# Altium integrated library Analog Devices RF IF Modulators and Demodulators.IntLib: 86 symbols (part 3 of 8)
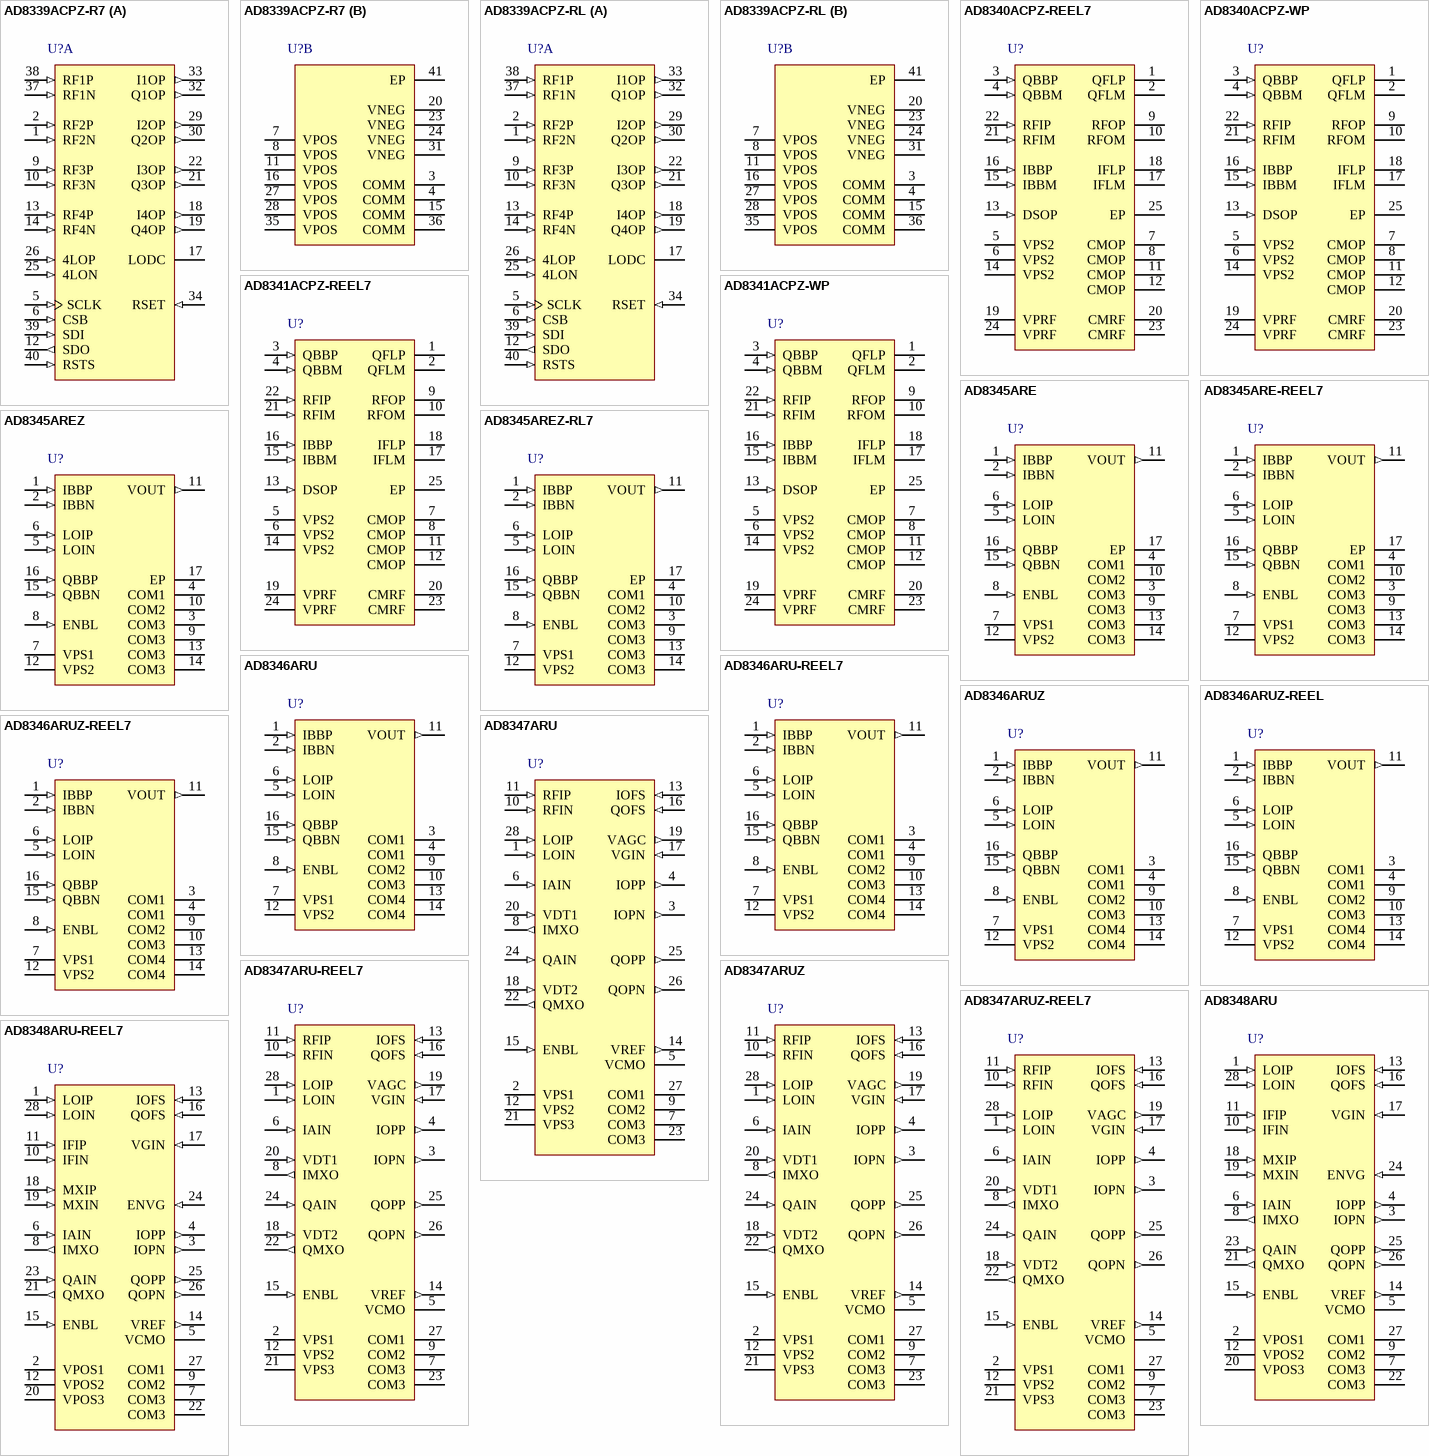
[diagram p7: symbols AD8339ACPZ-R7 to AD8348ARU-REEL7]

## AD8347ARU
designator U?
0.8 GHz to 2.7 GHz Direct Conversion Quadrature Demodulator, RU-28, 50 Tube; Min RF Frequency (MHz): 800MHz; Max RF Frequency (MHz): 2.7GHz; IQ Freq (MHz): 65MHz; Phase Error (deg): 1Deg; Amplitude Error (dB): 300mdB; VGA Range (dB): 69.5dB; IIP3 (+dBm): 11.5dBm; Output P1dB (dBm): 2; DatasheetVersion: Rev. A; PackageVersion: 2005; PackageReference: RU-28; PackageDescription: 28-Lead Thin Shrink Small Outline Package [TSSOP]; Code_JEDEC: MO-153-AE; ComponentLink1Description: Manufacturer URL; ComponentLink1URL: www.analog.com; ComponentLink2Description: Datasheet; ComponentLink2URL: http://www.analog.com/static/imported-files/data_sheets/AD8347.pdf; ComponentLink3Description: Package Specification; ComponentLink3URL: http://www.analog.com/static/imported-files/packages/249854663RU_28.pdf
footprint ADI-RU-28_N (TSOP, 28-Leads, Body 9.7x4.4mm, Pitch 0.65mm, IPC Medium Density)
footprint ADI-RU-28_L (TSOP, 28-Leads, Body 9.7x4.4mm, Pitch 0.65mm, IPC High Density)
footprint ADI-RU-28_M (TSOP, 28-Leads, Body 9.7x4.4mm, Pitch 0.65mm, IPC Low Density)
pins: 1 LOIN (in) "LO Input. For optimum performance, these inputs are differentially driven. Typical input drive level is equal to -8 dBm.[see datasheet]", 2 VPS1 (power) "Positive Supply for LO Section. Decouple VPS1 with 0.1 uF and 100 pF capacitors.", 3 IOPN (out) "I-Channel Differential Baseband Output. Typical output swing is equal to 760 mV p-p differential in AGC mode. The common-mode level on these pins is programmed by the voltage on VCMO.", 4 IOPP (out) "I-Channel Differential Baseband Output. Typical output swing is equal to 760 mV p-p differential in AGC mode. The common-mode level on these pins is programmed by the voltage on VCMO.", 5 VCMO "Baseband Amplifier Common-Mode Voltage. The voltage applied to this pin sets the output common-mode level of the baseband amplifiers.[see datasheet]", 6 IAIN (in) "I-Channel Baseband Amplifier Input. This pin, which has a high input impedance, should be biased to VREF (approximately 1 V).[see datasheet]", 7 COM3 (power) "Ground for Biasing and Baseband Sections.", 8 IMXO (out) "I-Channel and Q-Channel Baseband Mixer/VGA Outputs. Low impedance outputs with bias levels equal to VREF.[see datasheet]", 9 COM2 (power) "RF Section Ground.", 10 RFIN (in) "RF Input. RFIN must be ac-coupled to ground. The RF input signal should be ac-coupled into RFIP.[see datasheet]", 11 RFIP (in) "RF Input. RFIN must be ac-coupled to ground. The RF input signal should be ac-coupled into RFIP.[see datasheet]", 12 VPS2 (power) "Positive Supply for RF Section. Decouple VPS2 with 0.1 uF and 100 pF capacitors.", 13 IOFS (in) "I-Channel Offset Nulling Inputs.", 14 VREF (out) "Reference Voltage Output. This output voltage (1 V) is the main bias level for the device and can be used to externally bias the inputs and outputs of the baseband amplifiers. [see datasheet]", 15 ENBL (in) "Chip Enable Input. Active high.", 16 QOFS (in) "Q-Channel Offset Nulling Inputs.", 17 VGIN (in) "Gain Control Input. The voltage on this pin controls the gain on the RF and baseband VGAs. The gain control is applied in parallel to all VGAs.[see datasheet]", 18 VDT2 (in) "Detector Inputs. These pins are the inputs to the on-board detector. VDT2 and VDT1, which have high input impedances, are normally connected to IMXO and QMXO, respectively.", 19 VAGC (out) "AGC Output. This pin provides the output voltage from the on-board detector. In AGC mode, connect this pin directly to VGIN.", 20 VDT1 (in) "Detector Inputs. These pins are the inputs to the on-board detector. VDT2 and VDT1, which have high input impedances, are normally connected to IMXO and QMXO, respectively.", 21 VPS3 (power) "Positive Supply for Biasing and Baseband Sections. Decouple VPS3 with 0.1 uF and 100 pF capacitors.", 22 QMXO (out) "I-Channel and Q-Channel Baseband Mixer/VGA Outputs. Low impedance outputs with bias levels equal to VREF.[see datasheet]", 23 COM3 (power) "Ground for Biasing and Baseband Sections.", 24 QAIN (in) "Q-Channel Baseband Amplifier Input. Bias this high input impedance pin to VREF (approximately 1 V). If QAIN is directly connected to QMXO, biasing is provided by QMXO.[see datasheet]", 25 QOPP (out) "Q-Channel Differential Baseband Output. Typical output swing is equal to 760 mV p-p differential. The common-mode level on these pins is programmed by the voltage on VCMO.", 26 QOPN (out) "Q-Channel Differential Baseband Output. Typical output swing is equal to 760 mV p-p differential. The common-mode level on these pins is programmed by the voltage on VCMO.", 27 COM1 (power) "LO Section Ground.", 28 LOIP (in) "LO Input. For optimum performance, these inputs are differentially driven. Typical input drive level is equal to -8 dBm.[see datasheet]"

## AD8347ARU-REEL7
designator U?
0.8 GHz to 2.7 GHz Direct Conversion Quadrature Demodulator, RU-28, 1000 Reel; Min RF Frequency (MHz): 800MHz; Max RF Frequency (MHz): 2.7GHz; IQ Freq (MHz): 65MHz; Phase Error (deg): 1Deg; Amplitude Error (dB): 300mdB; VGA Range (dB): 69.5dB; IIP3 (+dBm): 11.5dBm; Output P1dB (dBm): 2; DatasheetVersion: Rev. A; PackageVersion: 2005; PackageReference: RU-28; PackageDescription: 28-Lead Thin Shrink Small Outline Package [TSSOP]; Code_JEDEC: MO-153-AE; ComponentLink1Description: Manufacturer URL; ComponentLink1URL: www.analog.com; ComponentLink2Description: Datasheet; ComponentLink2URL: http://www.analog.com/static/imported-files/data_sheets/AD8347.pdf; ComponentLink3Description: Package Specification; ComponentLink3URL: http://www.analog.com/static/imported-files/packages/249854663RU_28.pdf
footprint ADI-RU-28_N (TSOP, 28-Leads, Body 9.7x4.4mm, Pitch 0.65mm, IPC Medium Density)
footprint ADI-RU-28_L (TSOP, 28-Leads, Body 9.7x4.4mm, Pitch 0.65mm, IPC High Density)
footprint ADI-RU-28_M (TSOP, 28-Leads, Body 9.7x4.4mm, Pitch 0.65mm, IPC Low Density)
pins: 1 LOIN (in) "LO Input. For optimum performance, these inputs are differentially driven. Typical input drive level is equal to -8 dBm.[see datasheet]", 2 VPS1 (power) "Positive Supply for LO Section. Decouple VPS1 with 0.1 uF and 100 pF capacitors.", 3 IOPN (out) "I-Channel Differential Baseband Output. Typical output swing is equal to 760 mV p-p differential in AGC mode. The common-mode level on these pins is programmed by the voltage on VCMO.", 4 IOPP (out) "I-Channel Differential Baseband Output. Typical output swing is equal to 760 mV p-p differential in AGC mode. The common-mode level on these pins is programmed by the voltage on VCMO.", 5 VCMO "Baseband Amplifier Common-Mode Voltage. The voltage applied to this pin sets the output common-mode level of the baseband amplifiers.[see datasheet]", 6 IAIN (in) "I-Channel Baseband Amplifier Input. This pin, which has a high input impedance, should be biased to VREF (approximately 1 V).[see datasheet]", 7 COM3 (power) "Ground for Biasing and Baseband Sections.", 8 IMXO (out) "I-Channel and Q-Channel Baseband Mixer/VGA Outputs. Low impedance outputs with bias levels equal to VREF.[see datasheet]", 9 COM2 (power) "RF Section Ground.", 10 RFIN (in) "RF Input. RFIN must be ac-coupled to ground. The RF input signal should be ac-coupled into RFIP.[see datasheet]", 11 RFIP (in) "RF Input. RFIN must be ac-coupled to ground. The RF input signal should be ac-coupled into RFIP.[see datasheet]", 12 VPS2 (power) "Positive Supply for RF Section. Decouple VPS2 with 0.1 uF and 100 pF capacitors.", 13 IOFS (in) "I-Channel Offset Nulling Inputs.", 14 VREF (out) "Reference Voltage Output. This output voltage (1 V) is the main bias level for the device and can be used to externally bias the inputs and outputs of the baseband amplifiers. [see datasheet]", 15 ENBL (in) "Chip Enable Input. Active high.", 16 QOFS (in) "Q-Channel Offset Nulling Inputs.", 17 VGIN (in) "Gain Control Input. The voltage on this pin controls the gain on the RF and baseband VGAs. The gain control is applied in parallel to all VGAs.[see datasheet]", 18 VDT2 (in) "Detector Inputs. These pins are the inputs to the on-board detector. VDT2 and VDT1, which have high input impedances, are normally connected to IMXO and QMXO, respectively.", 19 VAGC (out) "AGC Output. This pin provides the output voltage from the on-board detector. In AGC mode, connect this pin directly to VGIN.", 20 VDT1 (in) "Detector Inputs. These pins are the inputs to the on-board detector. VDT2 and VDT1, which have high input impedances, are normally connected to IMXO and QMXO, respectively.", 21 VPS3 (power) "Positive Supply for Biasing and Baseband Sections. Decouple VPS3 with 0.1 uF and 100 pF capacitors.", 22 QMXO (out) "I-Channel and Q-Channel Baseband Mixer/VGA Outputs. Low impedance outputs with bias levels equal to VREF.[see datasheet]", 23 COM3 (power) "Ground for Biasing and Baseband Sections.", 24 QAIN (in) "Q-Channel Baseband Amplifier Input. Bias this high input impedance pin to VREF (approximately 1 V). If QAIN is directly connected to QMXO, biasing is provided by QMXO.[see datasheet]", 25 QOPP (out) "Q-Channel Differential Baseband Output. Typical output swing is equal to 760 mV p-p differential. The common-mode level on these pins is programmed by the voltage on VCMO.", 26 QOPN (out) "Q-Channel Differential Baseband Output. Typical output swing is equal to 760 mV p-p differential. The common-mode level on these pins is programmed by the voltage on VCMO.", 27 COM1 (power) "LO Section Ground.", 28 LOIP (in) "LO Input. For optimum performance, these inputs are differentially driven. Typical input drive level is equal to -8 dBm.[see datasheet]"

## AD8347ARUZ
designator U?
0.8 GHz to 2.7 GHz Direct Conversion Quadrature Demodulator, RU-28, Pb-Free, 50 Tube; Min RF Frequency (MHz): 800MHz; Max RF Frequency (MHz): 2.7GHz; IQ Freq (MHz): 65MHz; Phase Error (deg): 1Deg; Amplitude Error (dB): 300mdB; VGA Range (dB): 69.5dB; IIP3 (+dBm): 11.5dBm; Output P1dB (dBm): 2; DatasheetVersion: Rev. A; PackageVersion: 2005; PackageReference: RU-28; PackageDescription: 28-Lead Thin Shrink Small Outline Package [TSSOP]; Code_JEDEC: MO-153-AE; ComponentLink1Description: Manufacturer URL; ComponentLink1URL: www.analog.com; ComponentLink2Description: Datasheet; ComponentLink2URL: http://www.analog.com/static/imported-files/data_sheets/AD8347.pdf; ComponentLink3Description: Package Specification; ComponentLink3URL: http://www.analog.com/static/imported-files/packages/249854663RU_28.pdf
footprint ADI-RU-28_N (TSOP, 28-Leads, Body 9.7x4.4mm, Pitch 0.65mm, IPC Medium Density)
footprint ADI-RU-28_L (TSOP, 28-Leads, Body 9.7x4.4mm, Pitch 0.65mm, IPC High Density)
footprint ADI-RU-28_M (TSOP, 28-Leads, Body 9.7x4.4mm, Pitch 0.65mm, IPC Low Density)
pins: 1 LOIN (in) "LO Input. For optimum performance, these inputs are differentially driven. Typical input drive level is equal to -8 dBm.[see datasheet]", 2 VPS1 (power) "Positive Supply for LO Section. Decouple VPS1 with 0.1 uF and 100 pF capacitors.", 3 IOPN (out) "I-Channel Differential Baseband Output. Typical output swing is equal to 760 mV p-p differential in AGC mode. The common-mode level on these pins is programmed by the voltage on VCMO.", 4 IOPP (out) "I-Channel Differential Baseband Output. Typical output swing is equal to 760 mV p-p differential in AGC mode. The common-mode level on these pins is programmed by the voltage on VCMO.", 5 VCMO "Baseband Amplifier Common-Mode Voltage. The voltage applied to this pin sets the output common-mode level of the baseband amplifiers.[see datasheet]", 6 IAIN (in) "I-Channel Baseband Amplifier Input. This pin, which has a high input impedance, should be biased to VREF (approximately 1 V).[see datasheet]", 7 COM3 (power) "Ground for Biasing and Baseband Sections.", 8 IMXO (out) "I-Channel and Q-Channel Baseband Mixer/VGA Outputs. Low impedance outputs with bias levels equal to VREF.[see datasheet]", 9 COM2 (power) "RF Section Ground.", 10 RFIN (in) "RF Input. RFIN must be ac-coupled to ground. The RF input signal should be ac-coupled into RFIP.[see datasheet]", 11 RFIP (in) "RF Input. RFIN must be ac-coupled to ground. The RF input signal should be ac-coupled into RFIP.[see datasheet]", 12 VPS2 (power) "Positive Supply for RF Section. Decouple VPS2 with 0.1 uF and 100 pF capacitors.", 13 IOFS (in) "I-Channel Offset Nulling Inputs.", 14 VREF (out) "Reference Voltage Output. This output voltage (1 V) is the main bias level for the device and can be used to externally bias the inputs and outputs of the baseband amplifiers. [see datasheet]", 15 ENBL (in) "Chip Enable Input. Active high.", 16 QOFS (in) "Q-Channel Offset Nulling Inputs.", 17 VGIN (in) "Gain Control Input. The voltage on this pin controls the gain on the RF and baseband VGAs. The gain control is applied in parallel to all VGAs.[see datasheet]", 18 VDT2 (in) "Detector Inputs. These pins are the inputs to the on-board detector. VDT2 and VDT1, which have high input impedances, are normally connected to IMXO and QMXO, respectively.", 19 VAGC (out) "AGC Output. This pin provides the output voltage from the on-board detector. In AGC mode, connect this pin directly to VGIN.", 20 VDT1 (in) "Detector Inputs. These pins are the inputs to the on-board detector. VDT2 and VDT1, which have high input impedances, are normally connected to IMXO and QMXO, respectively.", 21 VPS3 (power) "Positive Supply for Biasing and Baseband Sections. Decouple VPS3 with 0.1 uF and 100 pF capacitors.", 22 QMXO (out) "I-Channel and Q-Channel Baseband Mixer/VGA Outputs. Low impedance outputs with bias levels equal to VREF.[see datasheet]", 23 COM3 (power) "Ground for Biasing and Baseband Sections.", 24 QAIN (in) "Q-Channel Baseband Amplifier Input. Bias this high input impedance pin to VREF (approximately 1 V). If QAIN is directly connected to QMXO, biasing is provided by QMXO.[see datasheet]", 25 QOPP (out) "Q-Channel Differential Baseband Output. Typical output swing is equal to 760 mV p-p differential. The common-mode level on these pins is programmed by the voltage on VCMO.", 26 QOPN (out) "Q-Channel Differential Baseband Output. Typical output swing is equal to 760 mV p-p differential. The common-mode level on these pins is programmed by the voltage on VCMO.", 27 COM1 (power) "LO Section Ground.", 28 LOIP (in) "LO Input. For optimum performance, these inputs are differentially driven. Typical input drive level is equal to -8 dBm.[see datasheet]"

## AD8347ARUZ-REEL7
designator U?
0.8 GHz to 2.7 GHz Direct Conversion Quadrature Demodulator, RU-28, Pb-Free, 1000 Reel; Min RF Frequency (MHz): 800MHz; Max RF Frequency (MHz): 2.7GHz; IQ Freq (MHz): 65MHz; Phase Error (deg): 1Deg; Amplitude Error (dB): 300mdB; VGA Range (dB): 69.5dB; IIP3 (+dBm): 11.5dBm; Output P1dB (dBm): 2; DatasheetVersion: Rev. A; PackageVersion: 2005; PackageReference: RU-28; PackageDescription: 28-Lead Thin Shrink Small Outline Package [TSSOP]; Code_JEDEC: MO-153-AE; ComponentLink1Description: Manufacturer URL; ComponentLink1URL: www.analog.com; ComponentLink2Description: Datasheet; ComponentLink2URL: http://www.analog.com/static/imported-files/data_sheets/AD8347.pdf; ComponentLink3Description: Package Specification; ComponentLink3URL: http://www.analog.com/static/imported-files/packages/249854663RU_28.pdf
footprint ADI-RU-28_N (TSOP, 28-Leads, Body 9.7x4.4mm, Pitch 0.65mm, IPC Medium Density)
footprint ADI-RU-28_L (TSOP, 28-Leads, Body 9.7x4.4mm, Pitch 0.65mm, IPC High Density)
footprint ADI-RU-28_M (TSOP, 28-Leads, Body 9.7x4.4mm, Pitch 0.65mm, IPC Low Density)
pins: 1 LOIN (in) "LO Input. For optimum performance, these inputs are differentially driven. Typical input drive level is equal to -8 dBm.[see datasheet]", 2 VPS1 (power) "Positive Supply for LO Section. Decouple VPS1 with 0.1 uF and 100 pF capacitors.", 3 IOPN (out) "I-Channel Differential Baseband Output. Typical output swing is equal to 760 mV p-p differential in AGC mode. The common-mode level on these pins is programmed by the voltage on VCMO.", 4 IOPP (out) "I-Channel Differential Baseband Output. Typical output swing is equal to 760 mV p-p differential in AGC mode. The common-mode level on these pins is programmed by the voltage on VCMO.", 5 VCMO "Baseband Amplifier Common-Mode Voltage. The voltage applied to this pin sets the output common-mode level of the baseband amplifiers.[see datasheet]", 6 IAIN (in) "I-Channel Baseband Amplifier Input. This pin, which has a high input impedance, should be biased to VREF (approximately 1 V).[see datasheet]", 7 COM3 (power) "Ground for Biasing and Baseband Sections.", 8 IMXO (out) "I-Channel and Q-Channel Baseband Mixer/VGA Outputs. Low impedance outputs with bias levels equal to VREF.[see datasheet]", 9 COM2 (power) "RF Section Ground.", 10 RFIN (in) "RF Input. RFIN must be ac-coupled to ground. The RF input signal should be ac-coupled into RFIP.[see datasheet]", 11 RFIP (in) "RF Input. RFIN must be ac-coupled to ground. The RF input signal should be ac-coupled into RFIP.[see datasheet]", 12 VPS2 (power) "Positive Supply for RF Section. Decouple VPS2 with 0.1 uF and 100 pF capacitors.", 13 IOFS (in) "I-Channel Offset Nulling Inputs.", 14 VREF (out) "Reference Voltage Output. This output voltage (1 V) is the main bias level for the device and can be used to externally bias the inputs and outputs of the baseband amplifiers. [see datasheet]", 15 ENBL (in) "Chip Enable Input. Active high.", 16 QOFS (in) "Q-Channel Offset Nulling Inputs.", 17 VGIN (in) "Gain Control Input. The voltage on this pin controls the gain on the RF and baseband VGAs. The gain control is applied in parallel to all VGAs.[see datasheet]", 18 VDT2 (in) "Detector Inputs. These pins are the inputs to the on-board detector. VDT2 and VDT1, which have high input impedances, are normally connected to IMXO and QMXO, respectively.", 19 VAGC (out) "AGC Output. This pin provides the output voltage from the on-board detector. In AGC mode, connect this pin directly to VGIN.", 20 VDT1 (in) "Detector Inputs. These pins are the inputs to the on-board detector. VDT2 and VDT1, which have high input impedances, are normally connected to IMXO and QMXO, respectively.", 21 VPS3 (power) "Positive Supply for Biasing and Baseband Sections. Decouple VPS3 with 0.1 uF and 100 pF capacitors.", 22 QMXO (out) "I-Channel and Q-Channel Baseband Mixer/VGA Outputs. Low impedance outputs with bias levels equal to VREF.[see datasheet]", 23 COM3 (power) "Ground for Biasing and Baseband Sections.", 24 QAIN (in) "Q-Channel Baseband Amplifier Input. Bias this high input impedance pin to VREF (approximately 1 V). If QAIN is directly connected to QMXO, biasing is provided by QMXO.[see datasheet]", 25 QOPP (out) "Q-Channel Differential Baseband Output. Typical output swing is equal to 760 mV p-p differential. The common-mode level on these pins is programmed by the voltage on VCMO.", 26 QOPN (out) "Q-Channel Differential Baseband Output. Typical output swing is equal to 760 mV p-p differential. The common-mode level on these pins is programmed by the voltage on VCMO.", 27 COM1 (power) "LO Section Ground.", 28 LOIP (in) "LO Input. For optimum performance, these inputs are differentially driven. Typical input drive level is equal to -8 dBm.[see datasheet]"

## AD8348ARU
designator U?
50 MHz to 1000 MHz Quadrature Demodulator, RU-28, 50 Tube; Min RF Frequency (MHz): 50MHz; Max RF Frequency (MHz): 1GHz; IQ Freq (MHz): 75MHz; Phase Error (deg): 0.5Deg; Amplitude Error (dB): 250mdB; VGA Range (dB): 45dB; IIP3 (+dBm): 28dBm; Output P1dB (dBm): 13; DatasheetVersion: Rev. A; PackageVersion: 2005; PackageReference: RU-28; PackageDescription: 28-Lead Thin Shrink Small Outline Package [TSSOP]; Code_JEDEC: MO-153-AE; ComponentLink1Description: Manufacturer URL; ComponentLink1URL: www.analog.com; ComponentLink2Description: Datasheet; ComponentLink2URL: http://www.analog.com/static/imported-files/data_sheets/AD8348.pdf; ComponentLink3Description: Package Specification; ComponentLink3URL: http://www.analog.com/static/imported-files/packages/249854663RU_28.pdf
footprint ADI-RU-28_N (TSOP, 28-Leads, Body 9.7x4.4mm, Pitch 0.65mm, IPC Medium Density)
footprint ADI-RU-28_L (TSOP, 28-Leads, Body 9.7x4.4mm, Pitch 0.65mm, IPC High Density)
footprint ADI-RU-28_M (TSOP, 28-Leads, Body 9.7x4.4mm, Pitch 0.65mm, IPC Low Density)
pins: 1 LOIP (in) "LO Inputs. For optimum performance, these inputs should be ac-coupled and driven differentially. Differential drive from single-ended sources can be achieved via a balun. [see datasheet]", 2 VPOS1 (power) "Positive Supply for LO, IF, and Biasing and Baseband Sections, Respectively. These pins should be decoupled with 0.1 uF and 100 pF capacitors", 3 IOPN (out) "I- and Q-Channel Differential Baseband Outputs. Typical output swing is equal to 2 V p-p differential. The dc common-mode voltage level on these pins is set by the voltage on VCMO", 4 IOPP (out) "I- and Q-Channel Differential Baseband Outputs. Typical output swing is equal to 2 V p-p differential. The dc common-mode voltage level on these pins is set by the voltage on VCMO", 5 VCMO "Baseband DC Common-Mode Voltage. The voltage applied to this pin sets the dc common-mode levels for all the baseband outputs and inputs (IMXO, QMXO, IOPP, IOPN, QOPP, QOPN, IAIN, and QAIN). [see datasheet]", 6 IAIN (in) "I- and Q-Channel Baseband Amplifier Inputs. The single-ended signals on these pins are referenced to VCMO and must have a dc bias equal to the dc voltage on the VCMO pin. [see datasheet]", 7 COM3 (power) "Ground for Biasing and Baseband Sections", 8 IMXO (out) "I- and Q-Channel Mixer Baseband Outputs. These are low impedance (40 O) outputs whose bias levels are set by the voltage applied to the VCMO pin. [see datasheet]", 9 COM2 (power) "IF Section Ground", 10 IFIN (in) "IF Inputs. IFIN should be ac-coupled to ground. The single-ended IF input signal should be ac-coupled into IFIP. The nominal differential input impedance of these pins is 200 O. [see datasheet]", 11 IFIP (in) "IF Inputs. IFIN should be ac-coupled to ground. The single-ended IF input signal should be ac-coupled into IFIP. The nominal differential input impedance of these pins is 200 O. [see datasheet]", 12 VPOS2 (power) "Positive Supply for LO, IF, and Biasing and Baseband Sections, Respectively. These pins should be decoupled with 0.1 uF and 100 pF capacitors", 13 IOFS (in) "I- and Q-Channel Offset Nulling Inputs. DC offsets on the I-channel mixer output (IMXO) can be nulled by connecting a 0.1 uF capacitor from IOFS to ground. [see datasheet]", 14 VREF (out) "Reference Voltage Output. This output voltage (1 V) is the main bias level for the device and can be used to externally bias the inputs and outputs of the baseband amplifiers. [see datasheet]", 15 ENBL (in) "Chip Enable Input. Active high. Threshold is equal to VS/2", 16 QOFS (in) "I- and Q-Channel Offset Nulling Inputs. DC offsets on the I-channel mixer output (IMXO) can be nulled by connecting a 0.1 uF capacitor from IOFS to ground. [see datasheet]", 17 VGIN (in) "Gain Control Input. The voltage on this pin controls the gain on the IF VGA. The gain control voltage range is from 0.2 V to 1.2 V and corresponds to a conversion gain range from +25.5 dB to -18.5 dB. [see datasheet]", 18 MXIP (in) "Auxiliary Mixer Inputs. If ENVG is low, the IFIP and IFIN inputs are disabled and MXIP and MXIN are enabled, allowing the VGA to be bypassed. [see datasheet]", 19 MXIN (in) "Auxiliary Mixer Inputs. If ENVG is low, the IFIP and IFIN inputs are disabled and MXIP and MXIN are enabled, allowing the VGA to be bypassed. [see datasheet]", 20 VPOS3 (power) "Positive Supply for LO, IF, and Biasing and Baseband Sections, Respectively. These pins should be decoupled with 0.1 uF and 100 pF capacitors", 21 QMXO (out) "I- and Q-Channel Mixer Baseband Outputs. These are low impedance (40 O) outputs whose bias levels are set by the voltage applied to the VCMO pin. [see datasheet]", 22 COM3 (power) "Ground for Biasing and Baseband Sections", 23 QAIN (in) "I- and Q-Channel Baseband Amplifier Inputs. The single-ended signals on these pins are referenced to VCMO and must have a dc bias equal to the dc voltage on the VCMO pin. [see datasheet]", 24 ENVG (in) "Active High VGA Enable. When ENVG is high, IFIP and IFIN inputs are enabled and MXIP and MXIN inputs are disabled. [see datasheet]", 25 QOPP (out) "I- and Q-Channel Differential Baseband Outputs. Typical output swing is equal to 2 V p-p differential. The dc common-mode voltage level on these pins is set by the voltage on VCMO", 26 QOPN (out) "I- and Q-Channel Differential Baseband Outputs. Typical output swing is equal to 2 V p-p differential. The dc common-mode voltage level on these pins is set by the voltage on VCMO", 27 COM1 (power) "LO Section Ground", 28 LOIN (in) "LO Inputs. For optimum performance, these inputs should be ac-coupled and driven differentially. Differential drive from single-ended sources can be achieved via a balun. [see datasheet]"

## AD8348ARU-REEL7
designator U?
50 MHz to 1000 MHz Quadrature Demodulator, RU-28, 1000 Reel; Min RF Frequency (MHz): 50MHz; Max RF Frequency (MHz): 1GHz; IQ Freq (MHz): 75MHz; Phase Error (deg): 0.5Deg; Amplitude Error (dB): 250mdB; VGA Range (dB): 45dB; IIP3 (+dBm): 28dBm; Output P1dB (dBm): 13; DatasheetVersion: Rev. A; PackageVersion: 2005; PackageReference: RU-28; PackageDescription: 28-Lead Thin Shrink Small Outline Package [TSSOP]; Code_JEDEC: MO-153-AE; ComponentLink1Description: Manufacturer URL; ComponentLink1URL: www.analog.com; ComponentLink2Description: Datasheet; ComponentLink2URL: http://www.analog.com/static/imported-files/data_sheets/AD8348.pdf; ComponentLink3Description: Package Specification; ComponentLink3URL: http://www.analog.com/static/imported-files/packages/249854663RU_28.pdf
footprint ADI-RU-28_N (TSOP, 28-Leads, Body 9.7x4.4mm, Pitch 0.65mm, IPC Medium Density)
footprint ADI-RU-28_L (TSOP, 28-Leads, Body 9.7x4.4mm, Pitch 0.65mm, IPC High Density)
footprint ADI-RU-28_M (TSOP, 28-Leads, Body 9.7x4.4mm, Pitch 0.65mm, IPC Low Density)
pins: 1 LOIP (in) "LO Inputs. For optimum performance, these inputs should be ac-coupled and driven differentially. Differential drive from single-ended sources can be achieved via a balun. [see datasheet]", 2 VPOS1 (power) "Positive Supply for LO, IF, and Biasing and Baseband Sections, Respectively. These pins should be decoupled with 0.1 uF and 100 pF capacitors", 3 IOPN (out) "I- and Q-Channel Differential Baseband Outputs. Typical output swing is equal to 2 V p-p differential. The dc common-mode voltage level on these pins is set by the voltage on VCMO", 4 IOPP (out) "I- and Q-Channel Differential Baseband Outputs. Typical output swing is equal to 2 V p-p differential. The dc common-mode voltage level on these pins is set by the voltage on VCMO", 5 VCMO "Baseband DC Common-Mode Voltage. The voltage applied to this pin sets the dc common-mode levels for all the baseband outputs and inputs (IMXO, QMXO, IOPP, IOPN, QOPP, QOPN, IAIN, and QAIN). [see datasheet]", 6 IAIN (in) "I- and Q-Channel Baseband Amplifier Inputs. The single-ended signals on these pins are referenced to VCMO and must have a dc bias equal to the dc voltage on the VCMO pin. [see datasheet]", 7 COM3 (power) "Ground for Biasing and Baseband Sections", 8 IMXO (out) "I- and Q-Channel Mixer Baseband Outputs. These are low impedance (40 O) outputs whose bias levels are set by the voltage applied to the VCMO pin. [see datasheet]", 9 COM2 (power) "IF Section Ground", 10 IFIN (in) "IF Inputs. IFIN should be ac-coupled to ground. The single-ended IF input signal should be ac-coupled into IFIP. The nominal differential input impedance of these pins is 200 O. [see datasheet]", 11 IFIP (in) "IF Inputs. IFIN should be ac-coupled to ground. The single-ended IF input signal should be ac-coupled into IFIP. The nominal differential input impedance of these pins is 200 O. [see datasheet]", 12 VPOS2 (power) "Positive Supply for LO, IF, and Biasing and Baseband Sections, Respectively. These pins should be decoupled with 0.1 uF and 100 pF capacitors", 13 IOFS (in) "I- and Q-Channel Offset Nulling Inputs. DC offsets on the I-channel mixer output (IMXO) can be nulled by connecting a 0.1 uF capacitor from IOFS to ground. [see datasheet]", 14 VREF (out) "Reference Voltage Output. This output voltage (1 V) is the main bias level for the device and can be used to externally bias the inputs and outputs of the baseband amplifiers. [see datasheet]", 15 ENBL (in) "Chip Enable Input. Active high. Threshold is equal to VS/2", 16 QOFS (in) "I- and Q-Channel Offset Nulling Inputs. DC offsets on the I-channel mixer output (IMXO) can be nulled by connecting a 0.1 uF capacitor from IOFS to ground. [see datasheet]", 17 VGIN (in) "Gain Control Input. The voltage on this pin controls the gain on the IF VGA. The gain control voltage range is from 0.2 V to 1.2 V and corresponds to a conversion gain range from +25.5 dB to -18.5 dB. [see datasheet]", 18 MXIP (in) "Auxiliary Mixer Inputs. If ENVG is low, the IFIP and IFIN inputs are disabled and MXIP and MXIN are enabled, allowing the VGA to be bypassed. [see datasheet]", 19 MXIN (in) "Auxiliary Mixer Inputs. If ENVG is low, the IFIP and IFIN inputs are disabled and MXIP and MXIN are enabled, allowing the VGA to be bypassed. [see datasheet]", 20 VPOS3 (power) "Positive Supply for LO, IF, and Biasing and Baseband Sections, Respectively. These pins should be decoupled with 0.1 uF and 100 pF capacitors", 21 QMXO (out) "I- and Q-Channel Mixer Baseband Outputs. These are low impedance (40 O) outputs whose bias levels are set by the voltage applied to the VCMO pin. [see datasheet]", 22 COM3 (power) "Ground for Biasing and Baseband Sections", 23 QAIN (in) "I- and Q-Channel Baseband Amplifier Inputs. The single-ended signals on these pins are referenced to VCMO and must have a dc bias equal to the dc voltage on the VCMO pin. [see datasheet]", 24 ENVG (in) "Active High VGA Enable. When ENVG is high, IFIP and IFIN inputs are enabled and MXIP and MXIN inputs are disabled. [see datasheet]", 25 QOPP (out) "I- and Q-Channel Differential Baseband Outputs. Typical output swing is equal to 2 V p-p differential. The dc common-mode voltage level on these pins is set by the voltage on VCMO", 26 QOPN (out) "I- and Q-Channel Differential Baseband Outputs. Typical output swing is equal to 2 V p-p differential. The dc common-mode voltage level on these pins is set by the voltage on VCMO", 27 COM1 (power) "LO Section Ground", 28 LOIN (in) "LO Inputs. For optimum performance, these inputs should be ac-coupled and driven differentially. Differential drive from single-ended sources can be achieved via a balun. [see datasheet]"

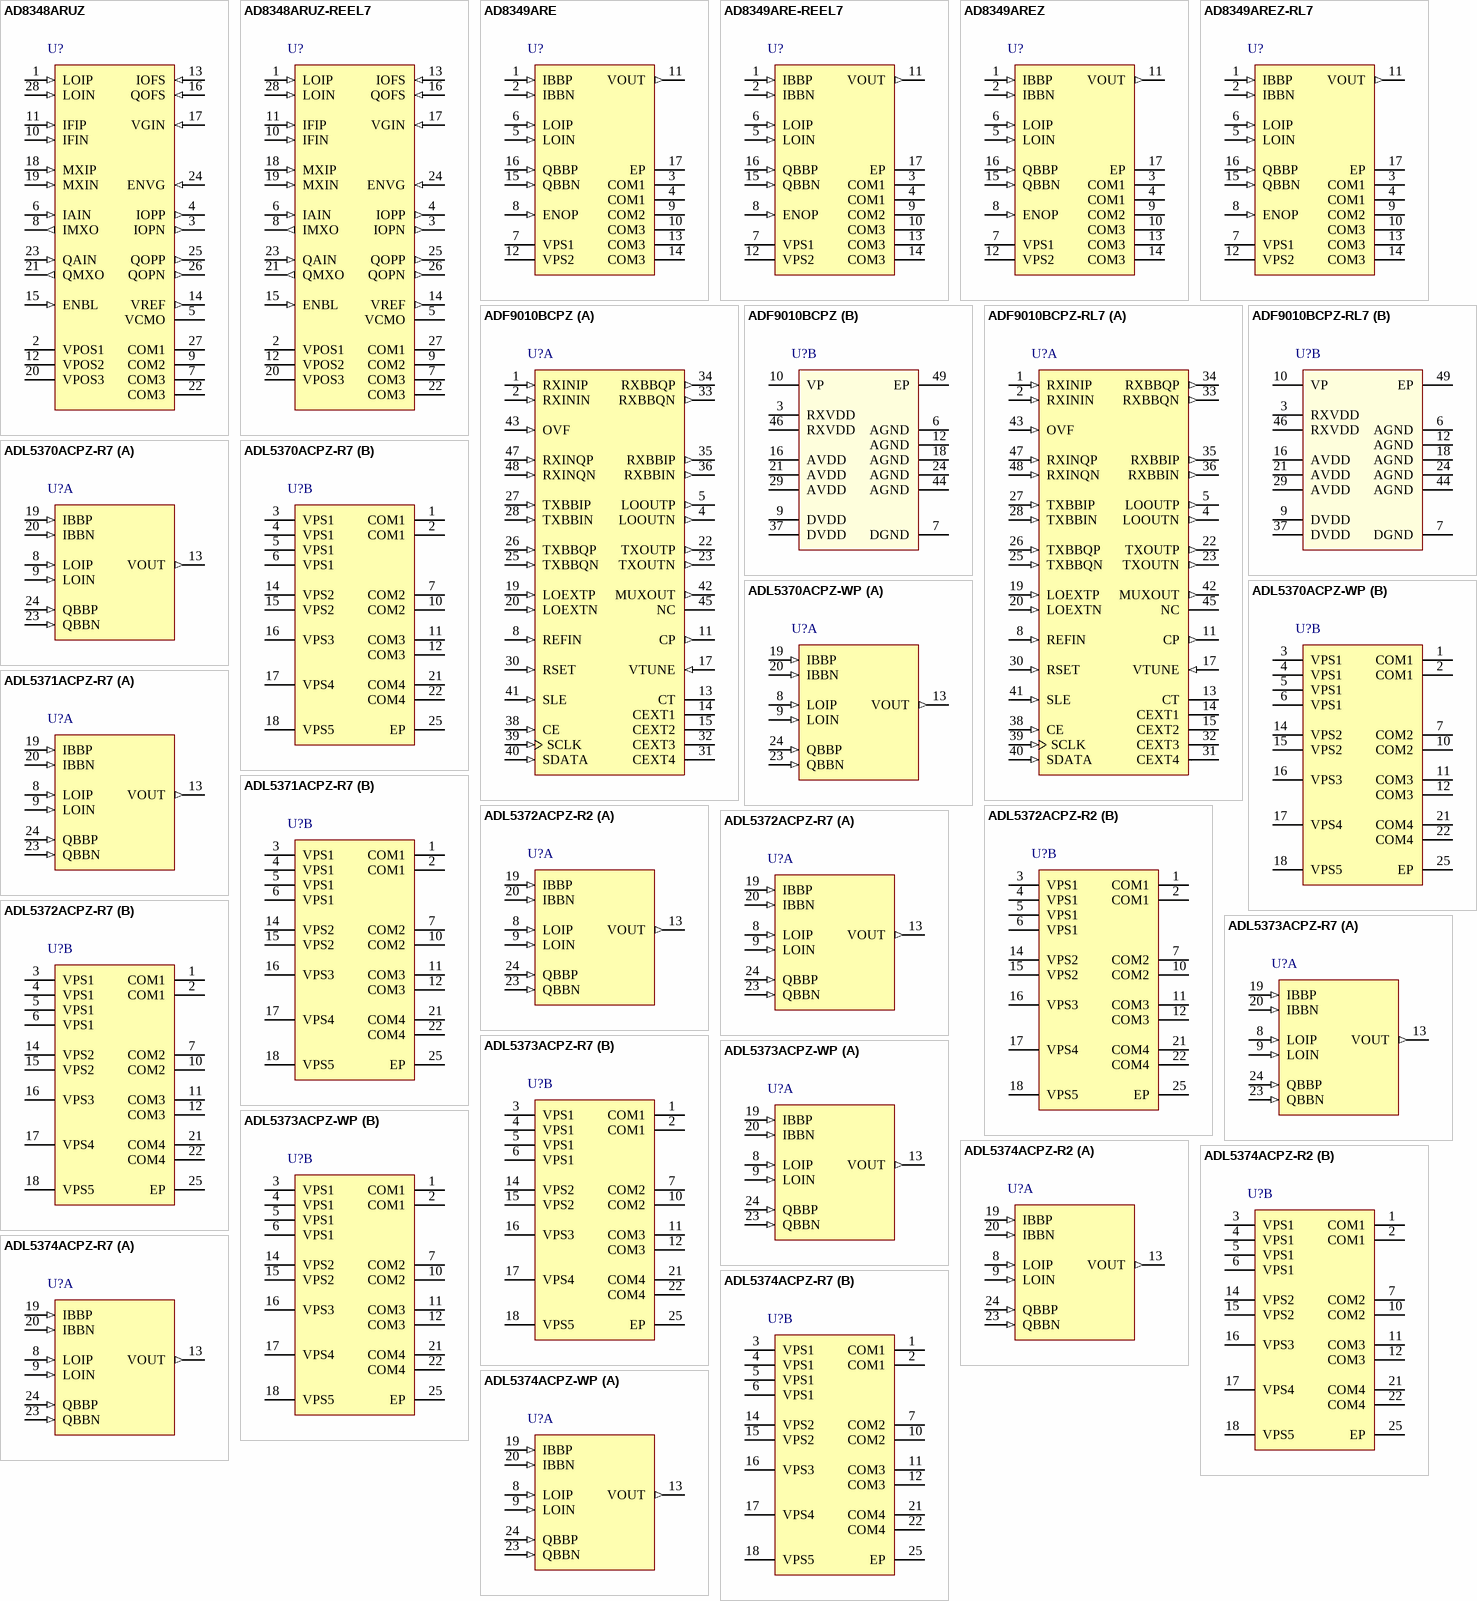
[diagram p2: symbols AD8348ARUZ to ADL5374ACPZ-WP]

## AD8348ARUZ
designator U?
50 MHz to 1000 MHz Quadrature Demodulator, RU-28, Pb-Free, 50 Tube; Min RF Frequency (MHz): 50MHz; Max RF Frequency (MHz): 1GHz; IQ Freq (MHz): 75MHz; Phase Error (deg): 0.5Deg; Amplitude Error (dB): 250mdB; VGA Range (dB): 45dB; IIP3 (+dBm): 28dBm; Output P1dB (dBm): 13; DatasheetVersion: Rev. A; PackageVersion: 2005; PackageReference: RU-28; PackageDescription: 28-Lead Thin Shrink Small Outline Package [TSSOP]; Code_JEDEC: MO-153-AE; ComponentLink1Description: Manufacturer URL; ComponentLink1URL: www.analog.com; ComponentLink2Description: Datasheet; ComponentLink2URL: http://www.analog.com/static/imported-files/data_sheets/AD8348.pdf; ComponentLink3Description: Package Specification; ComponentLink3URL: http://www.analog.com/static/imported-files/packages/249854663RU_28.pdf
footprint ADI-RU-28_N (TSOP, 28-Leads, Body 9.7x4.4mm, Pitch 0.65mm, IPC Medium Density)
footprint ADI-RU-28_L (TSOP, 28-Leads, Body 9.7x4.4mm, Pitch 0.65mm, IPC High Density)
footprint ADI-RU-28_M (TSOP, 28-Leads, Body 9.7x4.4mm, Pitch 0.65mm, IPC Low Density)
pins: 1 LOIP (in) "LO Inputs. For optimum performance, these inputs should be ac-coupled and driven differentially. Differential drive from single-ended sources can be achieved via a balun. [see datasheet]", 2 VPOS1 (power) "Positive Supply for LO, IF, and Biasing and Baseband Sections, Respectively. These pins should be decoupled with 0.1 uF and 100 pF capacitors", 3 IOPN (out) "I- and Q-Channel Differential Baseband Outputs. Typical output swing is equal to 2 V p-p differential. The dc common-mode voltage level on these pins is set by the voltage on VCMO", 4 IOPP (out) "I- and Q-Channel Differential Baseband Outputs. Typical output swing is equal to 2 V p-p differential. The dc common-mode voltage level on these pins is set by the voltage on VCMO", 5 VCMO "Baseband DC Common-Mode Voltage. The voltage applied to this pin sets the dc common-mode levels for all the baseband outputs and inputs (IMXO, QMXO, IOPP, IOPN, QOPP, QOPN, IAIN, and QAIN). [see datasheet]", 6 IAIN (in) "I- and Q-Channel Baseband Amplifier Inputs. The single-ended signals on these pins are referenced to VCMO and must have a dc bias equal to the dc voltage on the VCMO pin. [see datasheet]", 7 COM3 (power) "Ground for Biasing and Baseband Sections", 8 IMXO (out) "I- and Q-Channel Mixer Baseband Outputs. These are low impedance (40 O) outputs whose bias levels are set by the voltage applied to the VCMO pin. [see datasheet]", 9 COM2 (power) "IF Section Ground", 10 IFIN (in) "IF Inputs. IFIN should be ac-coupled to ground. The single-ended IF input signal should be ac-coupled into IFIP. The nominal differential input impedance of these pins is 200 O. [see datasheet]", 11 IFIP (in) "IF Inputs. IFIN should be ac-coupled to ground. The single-ended IF input signal should be ac-coupled into IFIP. The nominal differential input impedance of these pins is 200 O. [see datasheet]", 12 VPOS2 (power) "Positive Supply for LO, IF, and Biasing and Baseband Sections, Respectively. These pins should be decoupled with 0.1 uF and 100 pF capacitors", 13 IOFS (in) "I- and Q-Channel Offset Nulling Inputs. DC offsets on the I-channel mixer output (IMXO) can be nulled by connecting a 0.1 uF capacitor from IOFS to ground. [see datasheet]", 14 VREF (out) "Reference Voltage Output. This output voltage (1 V) is the main bias level for the device and can be used to externally bias the inputs and outputs of the baseband amplifiers. [see datasheet]", 15 ENBL (in) "Chip Enable Input. Active high. Threshold is equal to VS/2", 16 QOFS (in) "I- and Q-Channel Offset Nulling Inputs. DC offsets on the I-channel mixer output (IMXO) can be nulled by connecting a 0.1 uF capacitor from IOFS to ground. [see datasheet]", 17 VGIN (in) "Gain Control Input. The voltage on this pin controls the gain on the IF VGA. The gain control voltage range is from 0.2 V to 1.2 V and corresponds to a conversion gain range from +25.5 dB to -18.5 dB. [see datasheet]", 18 MXIP (in) "Auxiliary Mixer Inputs. If ENVG is low, the IFIP and IFIN inputs are disabled and MXIP and MXIN are enabled, allowing the VGA to be bypassed. [see datasheet]", 19 MXIN (in) "Auxiliary Mixer Inputs. If ENVG is low, the IFIP and IFIN inputs are disabled and MXIP and MXIN are enabled, allowing the VGA to be bypassed. [see datasheet]", 20 VPOS3 (power) "Positive Supply for LO, IF, and Biasing and Baseband Sections, Respectively. These pins should be decoupled with 0.1 uF and 100 pF capacitors", 21 QMXO (out) "I- and Q-Channel Mixer Baseband Outputs. These are low impedance (40 O) outputs whose bias levels are set by the voltage applied to the VCMO pin. [see datasheet]", 22 COM3 (power) "Ground for Biasing and Baseband Sections", 23 QAIN (in) "I- and Q-Channel Baseband Amplifier Inputs. The single-ended signals on these pins are referenced to VCMO and must have a dc bias equal to the dc voltage on the VCMO pin. [see datasheet]", 24 ENVG (in) "Active High VGA Enable. When ENVG is high, IFIP and IFIN inputs are enabled and MXIP and MXIN inputs are disabled. [see datasheet]", 25 QOPP (out) "I- and Q-Channel Differential Baseband Outputs. Typical output swing is equal to 2 V p-p differential. The dc common-mode voltage level on these pins is set by the voltage on VCMO", 26 QOPN (out) "I- and Q-Channel Differential Baseband Outputs. Typical output swing is equal to 2 V p-p differential. The dc common-mode voltage level on these pins is set by the voltage on VCMO", 27 COM1 (power) "LO Section Ground", 28 LOIN (in) "LO Inputs. For optimum performance, these inputs should be ac-coupled and driven differentially. Differential drive from single-ended sources can be achieved via a balun. [see datasheet]"

## AD8348ARUZ-REEL7
designator U?
50 MHz to 1000 MHz Quadrature Demodulator, RU-28, Pb-Free, 1000 Reel; Min RF Frequency (MHz): 50MHz; Max RF Frequency (MHz): 1GHz; IQ Freq (MHz): 75MHz; Phase Error (deg): 0.5Deg; Amplitude Error (dB): 250mdB; VGA Range (dB): 45dB; IIP3 (+dBm): 28dBm; Output P1dB (dBm): 13; DatasheetVersion: Rev. A; PackageVersion: 2005; PackageReference: RU-28; PackageDescription: 28-Lead Thin Shrink Small Outline Package [TSSOP]; Code_JEDEC: MO-153-AE; ComponentLink1Description: Manufacturer URL; ComponentLink1URL: www.analog.com; ComponentLink2Description: Datasheet; ComponentLink2URL: http://www.analog.com/static/imported-files/data_sheets/AD8348.pdf; ComponentLink3Description: Package Specification; ComponentLink3URL: http://www.analog.com/static/imported-files/packages/249854663RU_28.pdf
footprint ADI-RU-28_N (TSOP, 28-Leads, Body 9.7x4.4mm, Pitch 0.65mm, IPC Medium Density)
footprint ADI-RU-28_L (TSOP, 28-Leads, Body 9.7x4.4mm, Pitch 0.65mm, IPC High Density)
footprint ADI-RU-28_M (TSOP, 28-Leads, Body 9.7x4.4mm, Pitch 0.65mm, IPC Low Density)
pins: 1 LOIP (in) "LO Inputs. For optimum performance, these inputs should be ac-coupled and driven differentially. Differential drive from single-ended sources can be achieved via a balun. [see datasheet]", 2 VPOS1 (power) "Positive Supply for LO, IF, and Biasing and Baseband Sections, Respectively. These pins should be decoupled with 0.1 uF and 100 pF capacitors", 3 IOPN (out) "I- and Q-Channel Differential Baseband Outputs. Typical output swing is equal to 2 V p-p differential. The dc common-mode voltage level on these pins is set by the voltage on VCMO", 4 IOPP (out) "I- and Q-Channel Differential Baseband Outputs. Typical output swing is equal to 2 V p-p differential. The dc common-mode voltage level on these pins is set by the voltage on VCMO", 5 VCMO "Baseband DC Common-Mode Voltage. The voltage applied to this pin sets the dc common-mode levels for all the baseband outputs and inputs (IMXO, QMXO, IOPP, IOPN, QOPP, QOPN, IAIN, and QAIN). [see datasheet]", 6 IAIN (in) "I- and Q-Channel Baseband Amplifier Inputs. The single-ended signals on these pins are referenced to VCMO and must have a dc bias equal to the dc voltage on the VCMO pin. [see datasheet]", 7 COM3 (power) "Ground for Biasing and Baseband Sections", 8 IMXO (out) "I- and Q-Channel Mixer Baseband Outputs. These are low impedance (40 O) outputs whose bias levels are set by the voltage applied to the VCMO pin. [see datasheet]", 9 COM2 (power) "IF Section Ground", 10 IFIN (in) "IF Inputs. IFIN should be ac-coupled to ground. The single-ended IF input signal should be ac-coupled into IFIP. The nominal differential input impedance of these pins is 200 O. [see datasheet]", 11 IFIP (in) "IF Inputs. IFIN should be ac-coupled to ground. The single-ended IF input signal should be ac-coupled into IFIP. The nominal differential input impedance of these pins is 200 O. [see datasheet]", 12 VPOS2 (power) "Positive Supply for LO, IF, and Biasing and Baseband Sections, Respectively. These pins should be decoupled with 0.1 uF and 100 pF capacitors", 13 IOFS (in) "I- and Q-Channel Offset Nulling Inputs. DC offsets on the I-channel mixer output (IMXO) can be nulled by connecting a 0.1 uF capacitor from IOFS to ground. [see datasheet]", 14 VREF (out) "Reference Voltage Output. This output voltage (1 V) is the main bias level for the device and can be used to externally bias the inputs and outputs of the baseband amplifiers. [see datasheet]", 15 ENBL (in) "Chip Enable Input. Active high. Threshold is equal to VS/2", 16 QOFS (in) "I- and Q-Channel Offset Nulling Inputs. DC offsets on the I-channel mixer output (IMXO) can be nulled by connecting a 0.1 uF capacitor from IOFS to ground. [see datasheet]", 17 VGIN (in) "Gain Control Input. The voltage on this pin controls the gain on the IF VGA. The gain control voltage range is from 0.2 V to 1.2 V and corresponds to a conversion gain range from +25.5 dB to -18.5 dB. [see datasheet]", 18 MXIP (in) "Auxiliary Mixer Inputs. If ENVG is low, the IFIP and IFIN inputs are disabled and MXIP and MXIN are enabled, allowing the VGA to be bypassed. [see datasheet]", 19 MXIN (in) "Auxiliary Mixer Inputs. If ENVG is low, the IFIP and IFIN inputs are disabled and MXIP and MXIN are enabled, allowing the VGA to be bypassed. [see datasheet]", 20 VPOS3 (power) "Positive Supply for LO, IF, and Biasing and Baseband Sections, Respectively. These pins should be decoupled with 0.1 uF and 100 pF capacitors", 21 QMXO (out) "I- and Q-Channel Mixer Baseband Outputs. These are low impedance (40 O) outputs whose bias levels are set by the voltage applied to the VCMO pin. [see datasheet]", 22 COM3 (power) "Ground for Biasing and Baseband Sections", 23 QAIN (in) "I- and Q-Channel Baseband Amplifier Inputs. The single-ended signals on these pins are referenced to VCMO and must have a dc bias equal to the dc voltage on the VCMO pin. [see datasheet]", 24 ENVG (in) "Active High VGA Enable. When ENVG is high, IFIP and IFIN inputs are enabled and MXIP and MXIN inputs are disabled. [see datasheet]", 25 QOPP (out) "I- and Q-Channel Differential Baseband Outputs. Typical output swing is equal to 2 V p-p differential. The dc common-mode voltage level on these pins is set by the voltage on VCMO", 26 QOPN (out) "I- and Q-Channel Differential Baseband Outputs. Typical output swing is equal to 2 V p-p differential. The dc common-mode voltage level on these pins is set by the voltage on VCMO", 27 COM1 (power) "LO Section Ground", 28 LOIN (in) "LO Inputs. For optimum performance, these inputs should be ac-coupled and driven differentially. Differential drive from single-ended sources can be achieved via a balun. [see datasheet]"

## AD8349ARE
designator U?
700 MHz to 2700 MHz Quadrature Modulator, RE-16-2,; Min RF Frequency (MHz): 700MHz; Max RF Frequency (MHz): 2.7GHz; IQ Freq (MHz): 160MHz; Output P1dB (dBm): 6; DatasheetVersion: RevA; PackageVersion: 050806-A; PackageReference: RE-16-2; PackageDescription: 16-Lead Thin Shrink Small Outline With Exposed Pad [TSSOP_EP]; Code_JEDEC: MO-153-ABT; ComponentLink1Description: Manufacturer URL; ComponentLink1URL: www.analog.com; ComponentLink2Description: Datasheet; ComponentLink2URL: http://www.analog.com/static/imported-files/data_sheets/AD8349.pdf; ComponentLink3Description: Package Specification; ComponentLink3URL: http://www.analog.com/static/imported-files/packages/PKG_PDF/TSSOP_EP(RE)/RE_16_2.pdf
footprint ADI-RE-16-2_N (TSOP, 16-Leads, Body 5x4.4mm, Pitch 0.65mm, Thermal Pad, IPC Medium Density)
footprint ADI-RE-16-2_L (TSOP, 16-Leads, Body 5x4.4mm, Pitch 0.65mm, Thermal Pad, IPC High Density)
footprint ADI-RE-16-2_M (TSOP, 16-Leads, Body 5x4.4mm, Pitch 0.65mm, Thermal Pad, IPC Low Density)
pins: 1 IBBP (in) "Differential In-Phase and Quadrature Baseband Inputs. These high impedance inputs must be dc-biased to approximately 400 mV dc, and must be driven from a low impedance source. [see datasheet]", 2 IBBN (in) "Differential In-Phase and Quadrature Baseband Inputs. These high impedance inputs must be dc-biased to approximately 400 mV dc, and must be driven from a low impedance source. [see datasheet]", 3 COM1 (power) "Common Pin for LO Phase Splitter and LO Buffers. COM1, COM2, and COM3 should all be connected to a ground plane via a low impedance path.", 4 COM1 (power) "Common Pin for LO Phase Splitter and LO Buffers. COM1, COM2, and COM3 should all be connected to a ground plane via a low impedance path.", 5 LOIN (in) "Differential Local Oscillator Inputs. Internally dc-biased to approximately 1.8 V when VS = 5.0 V. Pins must be ac-coupled. Single-ended drive is possible with degradation in performance.", 6 LOIP (in) "Differential Local Oscillator Inputs. Internally dc-biased to approximately 1.8 V when VS = 5.0 V. Pins must be ac-coupled. Single-ended drive is possible with degradation in performance.", 7 VPS1 (power) "Positive Supply Voltage (4.75 V to 5.5 V) for the LO Bias-Cell and Buffer. VPS1 and VPS2 should be connected to the same supply. [see datasheet]", 8 ENOP (in) "Output Enable. This pin can be used to enable or disable the RF output. Connect to high logic level for normal operation. Connect to low logic level to disable output.", 9 COM2 (power) "Common Pin for the Output Amplifier. COM1, COM2, and COM3 should all be connected to a ground plane via a low impedance path.", 10 COM3 (power) "Common Pin for Input V-to-I Converters and Mixer Cores. COM1, COM2, and COM3 should all be connected to a ground plane via a low impedance path.", 11 VOUT (out) "Device Output. Single-ended, 50  ohm internally biased RF output. Pin must be ac-coupled to the load.", 12 VPS2 (power) "Positive Supply Voltage (4.75 V to 5.5 V) for the Baseband Input V-to-I Converters, Mixer Core, Band Gap Reference, and Output Amplifer. [see datasheet]", 13 COM3 (power) "Common Pin for Input V-to-I Converters and Mixer Cores. COM1, COM2, and COM3 should all be connected to a ground plane via a low impedance path.", 14 COM3 (power) "Common Pin for Input V-to-I Converters and Mixer Cores. COM1, COM2, and COM3 should all be connected to a ground plane via a low impedance path.", 15 QBBN (in) "Differential In-Phase and Quadrature Baseband Inputs. These high impedance inputs must be dc-biased to approximately 400 mV dc, and must be driven from a low impedance source. [see datasheet]", 16 QBBP (in) "Differential In-Phase and Quadrature Baseband Inputs. These high impedance inputs must be dc-biased to approximately 400 mV dc, and must be driven from a low impedance source. [see datasheet]", 17 EP (power) "Exposed Pad"

## AD8349ARE-REEL7
designator U?
700 MHz to 2700 MHz Quadrature Modulator, RE-16-2, 1000 Reel; Min RF Frequency (MHz): 700MHz; Max RF Frequency (MHz): 2.7GHz; IQ Freq (MHz): 160MHz; Output P1dB (dBm): 6; DatasheetVersion: RevA; PackageVersion: 050806-A; PackageReference: RE-16-2; PackageDescription: 16-Lead Thin Shrink Small Outline With Exposed Pad [TSSOP_EP]; Code_JEDEC: MO-153-ABT; ComponentLink1Description: Manufacturer URL; ComponentLink1URL: www.analog.com; ComponentLink2Description: Datasheet; ComponentLink2URL: http://www.analog.com/static/imported-files/data_sheets/AD8349.pdf; ComponentLink3Description: Package Specification; ComponentLink3URL: http://www.analog.com/static/imported-files/packages/PKG_PDF/TSSOP_EP(RE)/RE_16_2.pdf
footprint ADI-RE-16-2_N (TSOP, 16-Leads, Body 5x4.4mm, Pitch 0.65mm, Thermal Pad, IPC Medium Density)
footprint ADI-RE-16-2_L (TSOP, 16-Leads, Body 5x4.4mm, Pitch 0.65mm, Thermal Pad, IPC High Density)
footprint ADI-RE-16-2_M (TSOP, 16-Leads, Body 5x4.4mm, Pitch 0.65mm, Thermal Pad, IPC Low Density)
pins: 1 IBBP (in) "Differential In-Phase and Quadrature Baseband Inputs. These high impedance inputs must be dc-biased to approximately 400 mV dc, and must be driven from a low impedance source. [see datasheet]", 2 IBBN (in) "Differential In-Phase and Quadrature Baseband Inputs. These high impedance inputs must be dc-biased to approximately 400 mV dc, and must be driven from a low impedance source. [see datasheet]", 3 COM1 (power) "Common Pin for LO Phase Splitter and LO Buffers. COM1, COM2, and COM3 should all be connected to a ground plane via a low impedance path.", 4 COM1 (power) "Common Pin for LO Phase Splitter and LO Buffers. COM1, COM2, and COM3 should all be connected to a ground plane via a low impedance path.", 5 LOIN (in) "Differential Local Oscillator Inputs. Internally dc-biased to approximately 1.8 V when VS = 5.0 V. Pins must be ac-coupled. Single-ended drive is possible with degradation in performance.", 6 LOIP (in) "Differential Local Oscillator Inputs. Internally dc-biased to approximately 1.8 V when VS = 5.0 V. Pins must be ac-coupled. Single-ended drive is possible with degradation in performance.", 7 VPS1 (power) "Positive Supply Voltage (4.75 V to 5.5 V) for the LO Bias-Cell and Buffer. VPS1 and VPS2 should be connected to the same supply. [see datasheet]", 8 ENOP (in) "Output Enable. This pin can be used to enable or disable the RF output. Connect to high logic level for normal operation. Connect to low logic level to disable output.", 9 COM2 (power) "Common Pin for the Output Amplifier. COM1, COM2, and COM3 should all be connected to a ground plane via a low impedance path.", 10 COM3 (power) "Common Pin for Input V-to-I Converters and Mixer Cores. COM1, COM2, and COM3 should all be connected to a ground plane via a low impedance path.", 11 VOUT (out) "Device Output. Single-ended, 50  ohm internally biased RF output. Pin must be ac-coupled to the load.", 12 VPS2 (power) "Positive Supply Voltage (4.75 V to 5.5 V) for the Baseband Input V-to-I Converters, Mixer Core, Band Gap Reference, and Output Amplifer. [see datasheet]", 13 COM3 (power) "Common Pin for Input V-to-I Converters and Mixer Cores. COM1, COM2, and COM3 should all be connected to a ground plane via a low impedance path.", 14 COM3 (power) "Common Pin for Input V-to-I Converters and Mixer Cores. COM1, COM2, and COM3 should all be connected to a ground plane via a low impedance path.", 15 QBBN (in) "Differential In-Phase and Quadrature Baseband Inputs. These high impedance inputs must be dc-biased to approximately 400 mV dc, and must be driven from a low impedance source. [see datasheet]", 16 QBBP (in) "Differential In-Phase and Quadrature Baseband Inputs. These high impedance inputs must be dc-biased to approximately 400 mV dc, and must be driven from a low impedance source. [see datasheet]", 17 EP (power) "Exposed Pad"